# EAGLE library part 5035661302/HOLDJACK&CLICKWHEEL (library iPodConnectors)
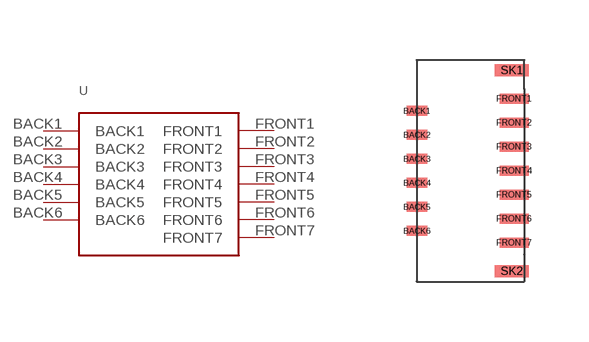
[diagram p3: symbol with the pads of 5035661302; footprint 5035661302]

Designator prefix -

## 5035661302/HOLDJACK&CLICKWHEEL  [5035661302]
BACK1  BACK1
BACK2  BACK2
BACK3  BACK3
BACK4  BACK4
BACK5  BACK5
BACK6  BACK6
FRONT1  FRONT1
FRONT2  FRONT2
FRONT3  FRONT3
FRONT4  FRONT4
FRONT5  FRONT5
FRONT6  FRONT6
FRONT7  FRONT7

## Footprint 5035661302 (pad centres in mm)
smd 0.52 x 0.25: BACK1 -0.43,1.7; BACK2 -0.43,1.1; BACK3 -0.43,0.5; BACK4 -0.43,-0.1; BACK5 -0.43,-0.7; BACK6 -0.43,-1.3
smd 0.72 x 0.25: FRONT1 2,2; FRONT2 2,1.4; FRONT3 2,0.8; FRONT4 2,0.2; FRONT5 2,-0.4; FRONT6 2,-1; FRONT7 2,-1.6
smd 0.85 x 0.3: SK1 1.94,2.71; SK2 1.94,-2.31